# Altium footprint library LED.PcbLib: 6 footprints
Each footprint in its own frame and in the unit in brackets; x right, y up, seen from the top. Pads: shape width x height; smd on the part's side, far side on the other; paste and mask are expansions set on the pad; w line width, h text height; cw(c..) or ccw(c..) is an arc to the next point about the centre after c.
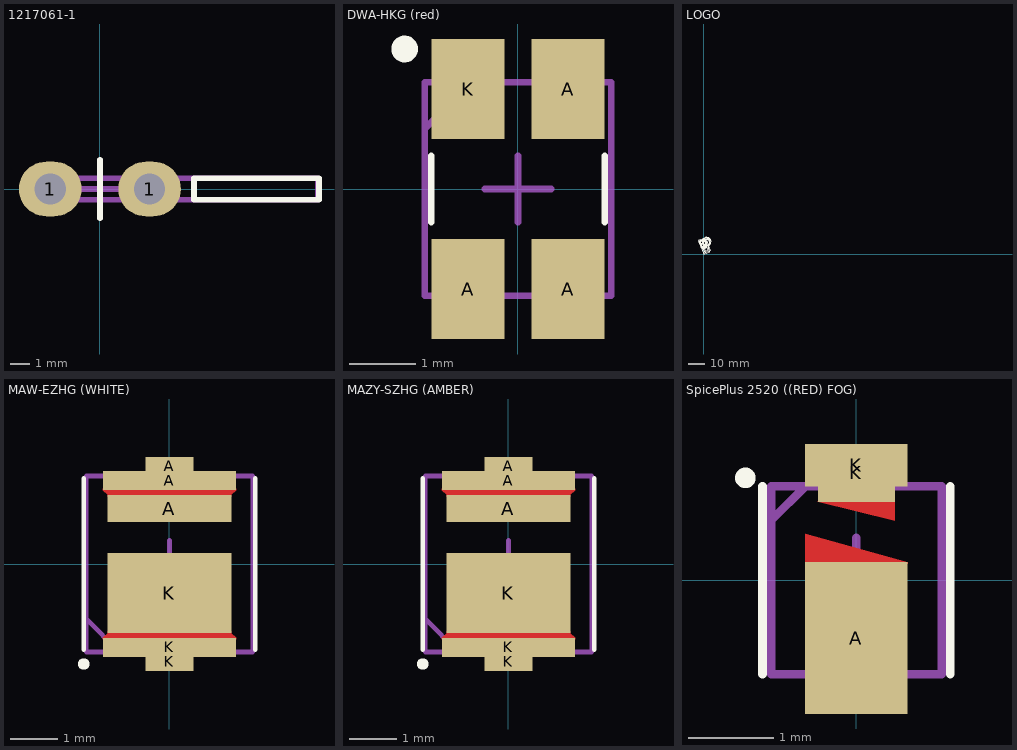
[diagram p0: the footprints below, top view; thin cyan lines are the x and y axes]

## 1217061-1 [mm]
pads (2):
  oval 3.2x2.8 hole 1.6 mask+0.102: 1(-2.54,0) 1(2.54,0)
Top Overlay:
  lines w0.3: 0,-1.5 0,1.5 ; 4.81,-0.55 11.21,-0.55 11.21,0.55 4.81,0.55 4.81,-0.55
Mechanical 15:
  lines w0.3: -1,0 1,0 ; 0,-1 0,1 ; -3.3,-0.55 11.15,-0.55 11.15,0.55 -3.3,0.55 -3.3,-0.55
3D body "c-1217061-1-g-3d.stp": height 7.47, standoff -3.8, extent -3.54,-0.4 11.065,0.4

## DWA-HKG (red) [mm] "PLCC-4"
pads (4):
  rect 1.1x1.5 smd: A(-0.75,-1.5) A(0.75,-1.5) A(0.75,1.5) K(-0.75,1.5)
Top Overlay:
  circle w0.2: c-1.7,2.1 r0.1
  lines w0.1: -1.3,-0.5 -1.3,0.5 ; 1.3,-0.5 1.3,0.5
Mechanical 15:
  lines w0.1: -1.4,0.9 -0.7,1.6 ; -0.5,0 0.5,0 ; 0,-0.5 0,0.5 ; -1.4,-1.6 1.4,-1.6 1.4,1.6 -1.4,1.6 -1.4,-1.6
3D body "User Library-Osram_Led_PLCC4-1 (1).STEP": height 1.95, standoff 0, extent -1.4,-1.75 1.4,1.75

## LOGO [mm]
Top Overlay:
  drawing of 3351 lines, arcs and shapes, not listed

## MAW-EZHG (WHITE) [mm]
pads (6):
  rect 2.6x0.57 smd paste-2539.97: A(0,1.165)
  rect 2.8x0.4 smd paste-2539.97: A(0,1.75) K(0,-1.75)
  rect 1x0.4 smd paste-2539.97: A(0,2.05) K(0,-2.05)
  rect 2.6x1.68 smd paste-2539.97: K(0,-0.61)
Top Layer:
  region: 1.3,1.41 1.3,1.45 1.4,1.55 1.4,1.58 -1.4,1.58 -1.4,1.55 -1.3,1.45 -1.3,1.41
  region: -1.3,-1.41 -1.3,-1.45 -1.4,-1.55 -1.4,-1.58 1.4,-1.58 1.4,-1.55 1.3,-1.45 1.3,-1.41
Top Overlay:
  circle w0.2: c-1.8,-2.1 r0.02
  lines w0.1: -1.8,-1.8 -1.8,1.8 ; 1.8,-1.8 1.8,1.8
Top Paste:
  region: 0.35,-1.83 -0.35,-1.83 -0.35,-2.07 0.35,-2.07
  rectangle: -0.35,1.83 0.35,2.06
  region: 1.1,-0.93 -1.1,-0.93 -1.1,-1.87 1.1,-1.87
  rectangle: -1.1,-0.73 1.1,0.14
  rectangle: -1.1,0.99 1.1,1.86
Top Solder:
  region: -1.502,-1.448 -1.394,-1.34 -1.31,-1.34 -1.31,-1.43 -1.35,-1.47 -1.502,-1.47
  region: 1.502,-1.448 1.394,-1.34 1.31,-1.34 1.31,-1.43 1.35,-1.47 1.502,-1.47
  region: -1.5,1.45 -1.4,1.35 -1.17,1.35 -1.17,1.45 -1.26,1.54 -1.5,1.54
  region: 1.5,1.45 1.4,1.35 1.17,1.35 1.17,1.45 1.26,1.54 1.5,1.54
Mechanical 15:
  lines w0.1: -1.75,-1.15 -1.05,-1.85 ; -0.5,0 0.5,0 ; 0,-0.5 0,0.5 ; -1.75,-1.85 1.75,-1.85 1.75,1.85 -1.75,1.85 -1.75,-1.85
3D body "MAW-EZHG_260919.STEP": height 0.8, standoff 0, extent -1.75,-1.85 1.75,1.85

## MAZY-SZHG (AMBER) [mm]
pads (6):
  rect 2.6x0.57 smd paste-2539.97: A(0,1.165)
  rect 2.8x0.4 smd paste-2539.97: A(0,1.75) K(0,-1.75)
  rect 1x0.4 smd paste-2539.97: A(0,2.05) K(0,-2.05)
  rect 2.6x1.68 smd paste-2539.97: K(0,-0.61)
Top Layer:
  region: 1.3,1.41 1.3,1.45 1.4,1.55 1.4,1.58 -1.4,1.58 -1.4,1.55 -1.3,1.45 -1.3,1.41
  region: -1.3,-1.41 -1.3,-1.45 -1.4,-1.55 -1.4,-1.58 1.4,-1.58 1.4,-1.55 1.3,-1.45 1.3,-1.41
Top Overlay:
  circle w0.2: c-1.8,-2.1 r0.02
  lines w0.1: -1.8,-1.8 -1.8,1.8 ; 1.8,-1.8 1.8,1.8
Top Paste:
  region: 0.35,-1.83 -0.35,-1.83 -0.35,-2.07 0.35,-2.07
  rectangle: -0.35,1.83 0.35,2.06
  region: 1.1,-0.93 -1.1,-0.93 -1.1,-1.87 1.1,-1.87
  rectangle: -1.1,-0.73 1.1,0.14
  rectangle: -1.1,0.99 1.1,1.86
Top Solder:
  region: -1.502,-1.448 -1.394,-1.34 -1.31,-1.34 -1.31,-1.43 -1.35,-1.47 -1.502,-1.47
  region: 1.502,-1.448 1.394,-1.34 1.31,-1.34 1.31,-1.43 1.35,-1.47 1.502,-1.47
  region: -1.5,1.45 -1.4,1.35 -1.17,1.35 -1.17,1.45 -1.26,1.54 -1.5,1.54
  region: 1.5,1.45 1.4,1.35 1.17,1.35 1.17,1.45 1.26,1.54 1.5,1.54
Mechanical 15:
  lines w0.1: -1.75,-1.15 -1.05,-1.85 ; -0.5,0 0.5,0 ; 0,-0.5 0,0.5 ; -1.75,-1.85 1.75,-1.85 1.75,1.85 -1.75,1.85 -1.75,-1.85
3D body "MAZY-SZHG.STEP": height 0.8, standoff 0, extent -1.75,-1.85 1.75,1.85

## SpicePlus 2520 ((RED) FOG) [mm]
pads (3):
  rect 1.2x1.78 smd: A(0,-0.676)
  rect 0.9x0.68 smd: K(0,1.258)
  rect 1.2x0.5 smd: K(0,1.348)
Top Layer:
  region: -0.45,0.929 -0.45,0.918 0.448,0.698 0.448,0.929
  region: -0.6,0.194 -0.6,0.544 0.6,0.214 0.6,0.194
Top Overlay:
  circle w0.2: c-1.3,1.2 r0.02
  lines w0.1: -1.1,-1.1 -1.1,1.1 ; 1.1,-1.1 1.1,1.1
Top Solder:
  region: -0.551,0.818 0.552,0.818 0.552,0.516
  region: 0.701,0.315 -0.699,0.315 -0.699,0.711
Mechanical 15:
  lines w0.1: -1,0.7 -0.6,1.1 ; -0.5,0 0.5,0 ; 0,-0.5 0,0.5 ; -1,-1.1 1,-1.1 1,1.1 -1,1.1 -1,-1.1
3D body "SVx-xHG_300921.stp": height 0.7, standoff 0, extent -1,-1.375 1,1.375